# EAGLE library part R6532 (library 6502_lib)
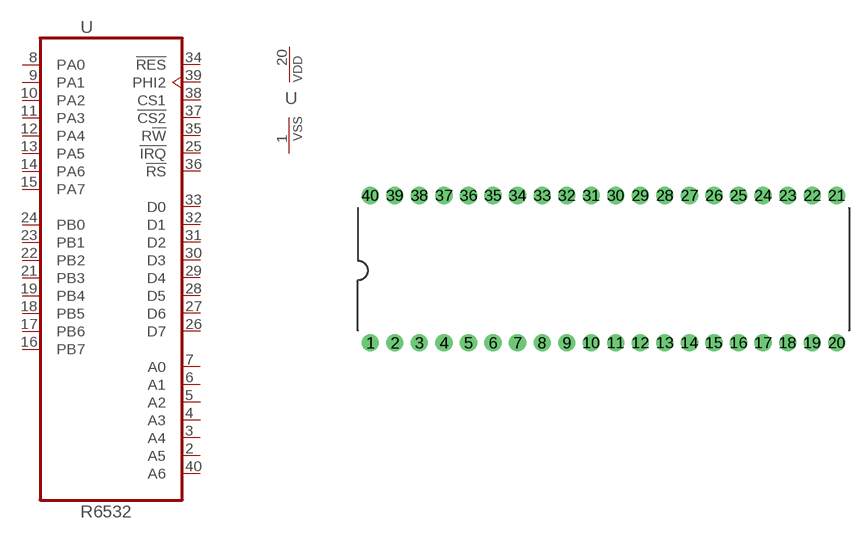
[diagram p14: symbol with the pads of DIL40; footprint DIL40]

Designator prefix U; gates G$1=R6532 G$2=PWRN

## R6532  [DIL40]
1  G$2:VSS  pwr
2  G$1:A5  in
3  G$1:A4  in
4  G$1:A3  in
5  G$1:A2  in
6  G$1:A1  in
7  G$1:A0  in
8  G$1:PA0
9  G$1:PA1
10  G$1:PA2
11  G$1:PA3
12  G$1:PA4
13  G$1:PA5
14  G$1:PA6
15  G$1:PA7
16  G$1:PB7
17  G$1:PB6
18  G$1:PB5
19  G$1:PB4
20  G$2:VDD  pwr
21  G$1:PB3
22  G$1:PB2
23  G$1:PB1
24  G$1:PB0
25  G$1:!IRQ  out
26  G$1:D7
27  G$1:D6
28  G$1:D5
29  G$1:D4
30  G$1:D3
31  G$1:D2
32  G$1:D1
33  G$1:D0
34  G$1:!RES  in
35  G$1:R!W  in
36  G$1:!RS  in
37  G$1:!CS2  in
38  G$1:CS1  in
39  G$1:PHI2  in
40  G$1:A6  in

## Footprint DIL40 (pad centres in mm)
drill 1.016 pad 1.778: 1 -24.13,-7.62; 2 -21.59,-7.62; 3 -19.05,-7.62; 4 -16.51,-7.62; 5 -13.97,-7.62; 6 -11.43,-7.62; 7 -8.89,-7.62; 8 -6.35,-7.62; 9 -3.81,-7.62; 10 -1.27,-7.62; 11 1.27,-7.62; 12 3.81,-7.62; 13 6.35,-7.62; 14 8.89,-7.62; 15 11.43,-7.62; 16 13.97,-7.62; 17 16.51,-7.62; 18 19.05,-7.62; 19 21.59,-7.62; 20 24.13,-7.62; 21 24.13,7.62; 22 21.59,7.62; 23 19.05,7.62; 24 16.51,7.62; 25 13.97,7.62; 26 11.43,7.62; 27 8.89,7.62; 28 6.35,7.62; 29 3.81,7.62; 30 1.27,7.62; 31 -1.27,7.62; 32 -3.81,7.62; 33 -6.35,7.62; 34 -8.89,7.62; 35 -11.43,7.62; 36 -13.97,7.62; 37 -16.51,7.62; 38 -19.05,7.62; 39 -21.59,7.62; 40 -24.13,7.62